# Altium footprint library 1N4004.PcbLib: 1 footprints
Each footprint in its own frame and in the unit in brackets; x right, y up, seen from the top. Pads: shape width x height; smd on the part's side, far side on the other; paste and mask are expansions set on the pad; w line width, h text height; cw(c..) or ccw(c..) is an arc to the next point about the centre after c.
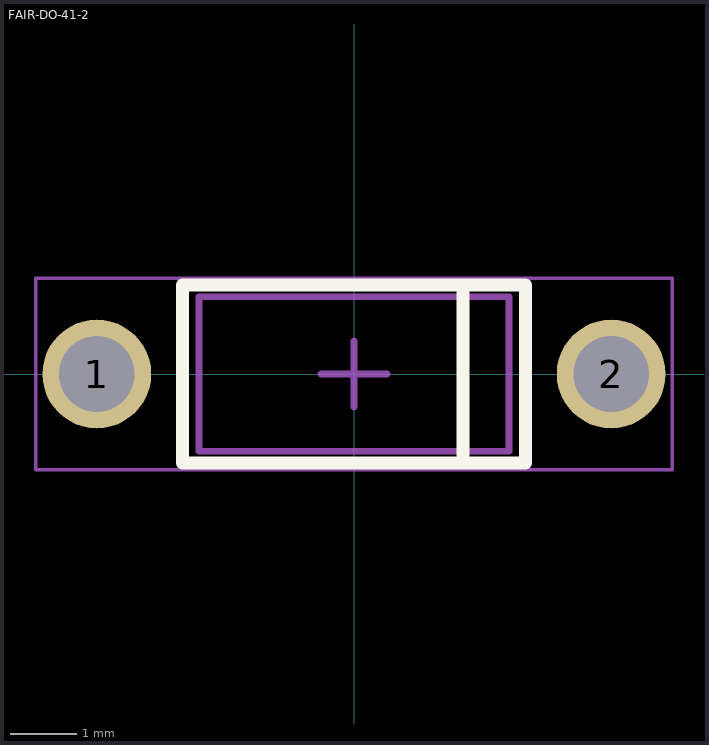
[diagram p0: the footprint, top view; thin cyan lines are the x and y axes]

## FAIR-DO-41-2 [mm] "THD, 2-Leads, Body 5.2x2.72mm, Pin Spacing 7.8mm"
height 2.72
pads (2):
  round 1.65 hole 1.15: 1(-3.9,0) 2(3.9,0)
Top Overlay:
  lines w0.2: 1.651,-1.35 1.651,1.35 ; -2.6,-1.35 -2.6,1.35 2.6,1.35 2.6,-1.35 -2.6,-1.35
Mechanical 13:
  lines w0.1: -2.35,-1.174 -2.35,1.174 2.35,1.174 2.35,-1.174 -2.35,-1.174
Mechanical 15:
  lines w0.05: -4.825,-1.45 -4.825,1.45 4.825,1.45 4.825,-1.45 -4.825,-1.45
  lines w0.1: -0.5,0 0.5,0 ; 0,-0.5 0,0.5
3D body: height 1.57, standoff 0.78, extent -3.899,-0.392 -2.349,0.392
3D body: height 1.17, standoff -2, extent -4.292,-0.392 -3.507,0.393
3D body: height 1.57, standoff 0.78, extent -4.292,-0.392 -3.507,0.392
3D body: height 1.57, standoff 0.78, extent 3.508,-0.392 4.292,0.393
3D body: height 1.17, standoff -2, extent 3.507,-0.392 4.292,0.393
3D body: height 1.57, standoff 0.78, extent 2.35,-0.392 3.9,0.392
3D body: height 2.35, standoff 0, extent -2.35,-1.174 2.35,1.174